# Altium footprint library TO254P469X1042X1967-3P.PcbLib: 1 footprints
Each footprint in its own frame and in the unit in brackets; x right, y up, seen from the top. Pads: shape width x height; smd on the part's side, far side on the other; paste and mask are expansions set on the pad; w line width, h text height; cw(c..) or ccw(c..) is an arc to the next point about the centre after c.
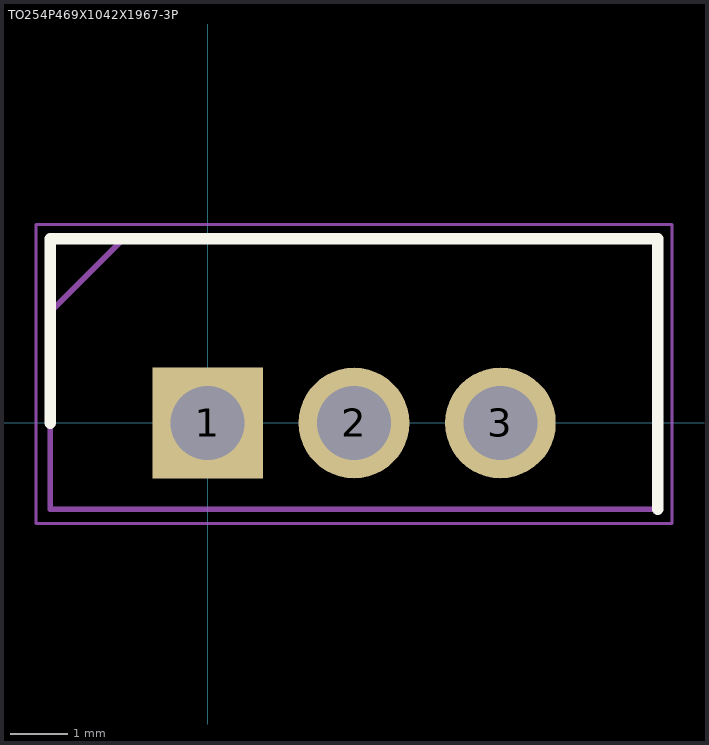
[diagram p0: the footprint, top view; thin cyan lines are the x and y axes]

## TO254P469X1042X1967-3P [mm]
pads (3):
  rect 1.92x1.92 / inner round 1.92 / far side rect 1.92x1.92 hole 1.28: 1(0,0)
  round 1.92 hole 1.28: 2(2.54,0) 3(5.08,0)
Top Overlay:
  lines w0.2: -2.73,0 -2.73,3.195 7.81,3.195 7.81,-1.495
Mechanical 15:
  lines w0.1: -2.73,1.925 -1.46,3.195 ; -2.73,-1.495 7.81,-1.495 7.81,3.195 -2.73,3.195 -2.73,-1.495
Mechanical 20:
  lines w0.05: -2.98,-1.745 8.06,-1.745 8.06,3.445 -2.98,3.445 -2.98,-1.745